# Altium footprint library AP62250WU-7.PcbLib: 3 footprints
Each footprint in its own frame and in the unit in brackets; x right, y up, seen from the top. Pads: shape width x height; smd on the part's side, far side on the other; paste and mask are expansions set on the pad; w line width, h text height; cw(c..) or ccw(c..) is an arc to the next point about the centre after c.
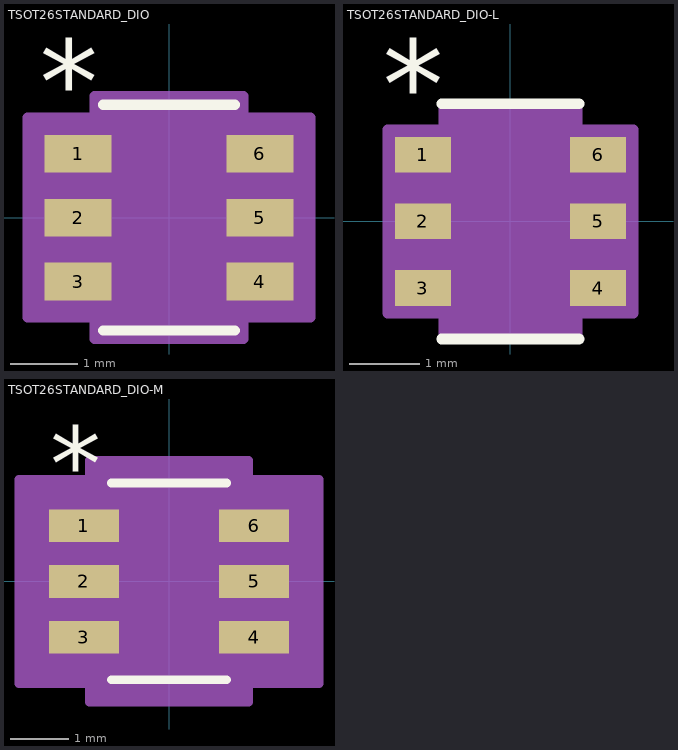
[diagram p0: the footprints below, top view; thin cyan lines are the x and y axes]

## TSOT26STANDARD_DIO [mm]
pads (6):
  rect 0.998x0.558 smd paste+0 mask+0: 1(-1.35,0.95) 2(-1.35,0) 3(-1.35,-0.95) 4(1.35,-0.95) 5(1.35,0) 6(1.35,0.95)
Top Overlay:
  lines w0.152: -0.978,-1.676 0.978,-1.676 ; -0.978,1.676 0.978,1.676
  text ".Designator" at -3.492,-0.635 h1.27
  text "*" at -1.921,1.381 h1.27
Mechanical 13:
  lines w0.025: -0.305,1.549 ccw(c0,1.549) 0.305,1.549 ; -1.499,-1.204 -1.499,-0.696 -0.851,-0.696 -0.851,-1.204 -1.499,-1.204 ; -1.499,-0.254 -1.499,0.254 -0.851,0.254 -0.851,-0.254 -1.499,-0.254 ; -1.499,0.696 -1.499,1.204 -0.851,1.204 -0.851,0.696 -1.499,0.696 ; -0.851,-1.549 0.851,-1.549 0.851,1.549 -0.851,1.549 -0.851,-1.549 ; 0.851,-1.204 0.851,-0.696 1.499,-0.696 1.499,-1.204 0.851,-1.204 ; 0.851,-0.254 0.851,0.254 1.499,0.254 1.499,-0.254 0.851,-0.254 ; 0.851,0.696 0.851,1.204 1.499,1.204 1.499,0.696 0.851,0.696
  text "*" at -0.787,0.203 h1.27
  text ".Designator" at -3.492,-0.635 h1.27
Mechanical 15:
  region: -1.105,-1.483 -2.103,-1.483 -2.103,1.483 -1.105,1.483 -1.105,1.803 1.105,1.803 1.105,1.483 2.103,1.483 2.103,-1.483 1.105,-1.483 1.105,-1.803 -1.105,-1.803
  lines w0.152: -2.103,-1.483 -2.103,1.483 -1.105,1.483 -1.105,1.803 1.105,1.803 1.105,1.483 2.103,1.483 2.103,-1.483 1.105,-1.483 1.105,-1.803 -1.105,-1.803 -1.105,-1.483 -2.103,-1.483
3D body "TSOT26STANDARD_DIO.step": height 0.99, standoff 0, extent -1.499,-1.549 1.499,1.549

## TSOT26STANDARD_DIO-L [mil]
pads (6):
  rect 31.41x20 smd paste+0 mask+0: 1(-49.2,37.4) 2(-49.2,0) 3(-49.2,-37.4) 4(49.2,-37.4) 5(49.2,0) 6(49.2,37.4)
Top Overlay:
  lines w6: -38.5,-66 38.5,-66 ; -38.5,66 38.5,66
  text ".Designator" at -137.5,-25 h50
  text "*" at -71.7,52.4 h50
Mechanical 13:
  lines w1: -12,61 ccw(c0,61) 12,61 ; -59,-47.4 -59,-27.4 -33.5,-27.4 -33.5,-47.4 -59,-47.4 ; -59,-10 -59,10 -33.5,10 -33.5,-10 -59,-10 ; -59,27.4 -59,47.4 -33.5,47.4 -33.5,27.4 -59,27.4 ; -33.5,-61 33.5,-61 33.5,61 -33.5,61 -33.5,-61 ; 33.5,-47.4 33.5,-27.4 59,-27.4 59,-47.4 33.5,-47.4 ; 33.5,-10 33.5,10 59,10 59,-10 33.5,-10 ; 33.5,27.4 33.5,47.4 59,47.4 59,27.4 33.5,27.4
  text "*" at -31,8 h50
  text ".Designator" at -137.5,-25 h50
Mechanical 15:
  region: -37.5,-51.4 -68.91,-51.4 -68.91,51.4 -37.5,51.4 -37.5,65 37.5,65 37.5,51.4 68.91,51.4 68.91,-51.4 37.5,-51.4 37.5,-65 -37.5,-65
  lines w6: -68.91,-51.4 -68.91,51.4 -37.5,51.4 -37.5,65 37.5,65 37.5,51.4 68.91,51.4 68.91,-51.4 37.5,-51.4 37.5,-65 -37.5,-65 -37.5,-51.4 -68.91,-51.4
3D body "TSOT26STANDARD_DIO.step": height 39.09, standoff 0, extent -59.02,-60.98 59.02,60.98

## TSOT26STANDARD_DIO-M [mm]
pads (6):
  rect 1.198x0.558 smd paste+0 mask+0: 1(-1.45,0.95) 2(-1.45,0) 3(-1.45,-0.95) 4(1.45,-0.95) 5(1.45,0) 6(1.45,0.95)
Top Overlay:
  lines w0.152: -0.978,-1.676 0.978,-1.676 ; -0.978,1.676 0.978,1.676
  text ".Designator" at -3.492,-0.635 h1.27
  text "*" at -2.021,1.381 h1.27
Mechanical 13:
  lines w0.025: -0.305,1.549 ccw(c0,1.549) 0.305,1.549 ; -1.499,-1.204 -1.499,-0.696 -0.851,-0.696 -0.851,-1.204 -1.499,-1.204 ; -1.499,-0.254 -1.499,0.254 -0.851,0.254 -0.851,-0.254 -1.499,-0.254 ; -1.499,0.696 -1.499,1.204 -0.851,1.204 -0.851,0.696 -1.499,0.696 ; -0.851,-1.549 0.851,-1.549 0.851,1.549 -0.851,1.549 -0.851,-1.549 ; 0.851,-1.204 0.851,-0.696 1.499,-0.696 1.499,-1.204 0.851,-1.204 ; 0.851,-0.254 0.851,0.254 1.499,0.254 1.499,-0.254 0.851,-0.254 ; 0.851,0.696 0.851,1.204 1.499,1.204 1.499,0.696 0.851,0.696
  text "*" at -0.787,0.203 h1.27
  text ".Designator" at -3.492,-0.635 h1.27
Mechanical 15:
  region: -1.359,-1.737 -2.557,-1.737 -2.557,1.737 -1.359,1.737 -1.359,2.057 1.359,2.057 1.359,1.737 2.557,1.737 2.557,-1.737 1.359,-1.737 1.359,-2.057 -1.359,-2.057
  lines w0.152: -2.557,-1.737 -2.557,1.737 -1.359,1.737 -1.359,2.057 1.359,2.057 1.359,1.737 2.557,1.737 2.557,-1.737 1.359,-1.737 1.359,-2.057 -1.359,-2.057 -1.359,-1.737 -2.557,-1.737
3D body "TSOT26STANDARD_DIO.step": height 0.99, standoff 0, extent -1.499,-1.549 1.499,1.549